# EAGLE library part CONN_FFC_1X22_SH (library GPLIB_CONN)
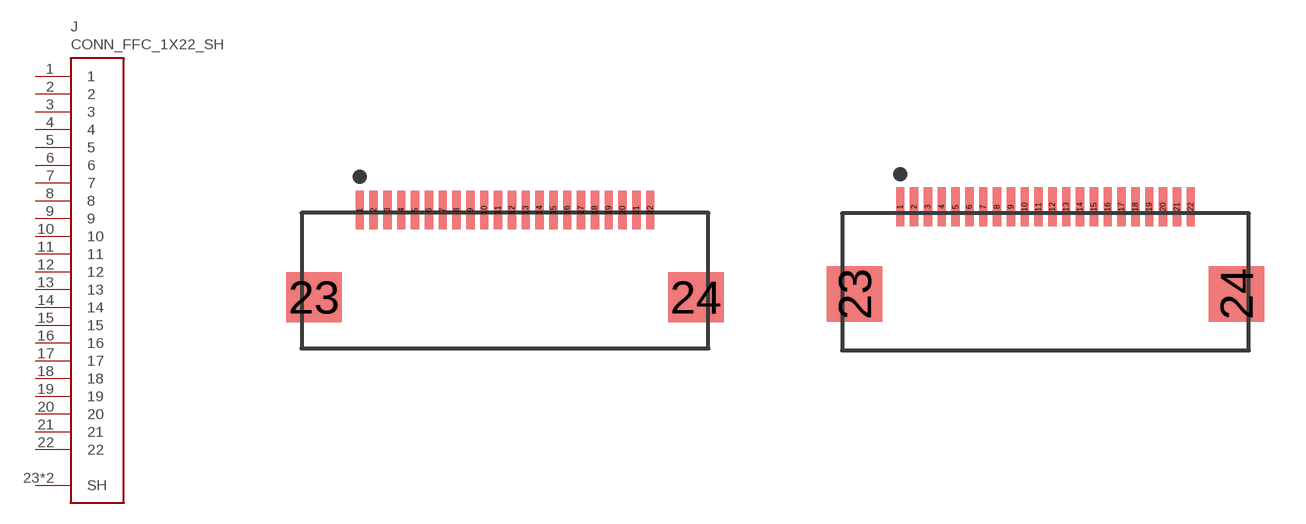
[diagram p36: symbol with the pads of CONN_FFC_1X22_0.5MM_SM_RA_F0504-H-22-20T-R; footprints CONN_FFC_1X22_0.5MM_SM_RA_F0504-H-22-20T-R, CONN_FFC_1X22_0.5MM_SM_RA_0.5K-GX-22PWB-R]

Designator prefix J

## CONN_FFC_1X22_SH_0.5MM_SM_RA_F0504-H-22-20T-R  [CONN_FFC_1X22_0.5MM_SM_RA_F0504-H-22-20T-R]
1  1  pas
2  2  pas
3  3  pas
4  4  pas
5  5  pas
6  6  pas
7  7  pas
8  8  pas
9  9  pas
10  10  pas
11  11  pas
12  12  pas
13  13  pas
14  14  pas
15  15  pas
16  16  pas
17  17  pas
18  18  pas
19  19  pas
20  20  pas
21  21  pas
22  22  pas
23  SH  pas
24  SH  pas

## CONN_FFC_1X22_SH_0.5MM_SM_RA_0.5K-GX-22PWB-R  [CONN_FFC_1X22_0.5MM_SM_RA_0.5K-GX-22PWB-R]
Pads as for CONN_FFC_1X22_0.5MM_SM_RA_F0504-H-22-20T-R

## Footprint CONN_FFC_1X22_0.5MM_SM_RA_F0504-H-22-20T-R (pad centres in mm)
smd 0.3 x 1.4: 1 -5.25,2.55; 2 -4.75,2.55; 3 -4.25,2.55; 4 -3.75,2.55; 5 -3.25,2.55; 6 -2.75,2.55; 7 -2.25,2.55; 8 -1.75,2.55; 9 -1.25,2.55; 10 -0.75,2.55; 11 -0.25,2.55; 12 0.25,2.55; 13 0.75,2.55; 14 1.25,2.55; 15 1.75,2.55; 16 2.25,2.55; 17 2.75,2.55; 18 3.25,2.55; 19 3.75,2.55; 20 4.25,2.55; 21 4.75,2.55; 22 5.25,2.55
smd 2 x 1.8: 23 -6.9,-0.6; 24 6.9,-0.6

## Footprint CONN_FFC_1X22_0.5MM_SM_RA_0.5K-GX-22PWB-R (pad centres in mm)
smd 0.3 x 1.4: 1 -5.25,1.575; 2 -4.75,1.575; 3 -4.25,1.575; 4 -3.75,1.575; 5 -3.25,1.575; 6 -2.75,1.575; 7 -2.25,1.575; 8 -1.75,1.575; 9 -1.25,1.575; 10 -0.75,1.575; 11 -0.25,1.575; 12 0.25,1.575; 13 0.75,1.575; 14 1.25,1.575; 15 1.75,1.575; 16 2.25,1.575; 17 2.75,1.575; 18 3.25,1.575; 19 3.75,1.575; 20 4.25,1.575; 21 4.75,1.575; 22 5.25,1.575
smd 2 x 2: 23 -6.9,-1.575; 24 6.9,-1.575